# EAGLE library part IFX91041EJV* (library RoboJackets-PowerICs)
1.8A DC/DC Step-Down Voltage Regulator
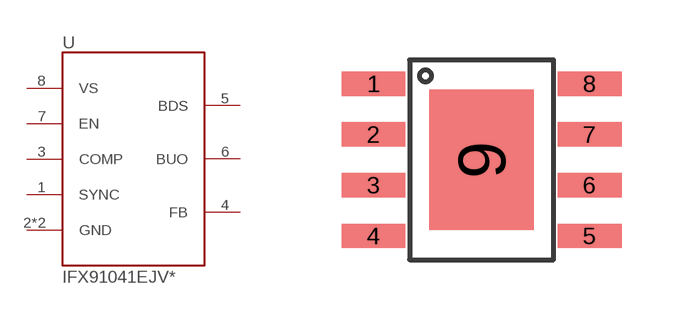
[diagram p5: symbol with the pads of SOIC-8-EXPOSED_PAD; footprint SOIC-8-EXPOSED_PAD]

Designator prefix U

## IFX91041EJV, IFX91041EJV50 (DKPN: IFX91041EJV50XUMA1CT-ND; VOLT: 5.0V)  [SOIC-8-EXPOSED_PAD]
1  SYNC  pas
2  GND  pas
3  COMP  pas
4  FB  pas
5  BDS  pas
6  BUO  pas
7  EN  pas
8  VS  pas
9  GND  pas

## Footprint SOIC-8-EXPOSED_PAD (pad centres in mm)
SOIC-8 Package with Thermal Pad underneath https://www.digikey.com/product-detail/en/infineon-technologies/IFX91041EJVXUMA1/IFX91041EJVXUMA1TR-ND/2337942
smd 1.6 x 0.61: 1 -2.7,1.905; 2 -2.7,0.635; 3 -2.7,-0.635; 4 -2.7,-1.905; 5 2.7,-1.905; 6 2.7,-0.635; 7 2.7,0.635; 8 2.7,1.905
smd 2.62 x 3.51: 9 0,0